# EAGLE library part HY-1.8SPI (library HY1.8SPI)
HY1.8 SPI 1.8" LCD with SD slot
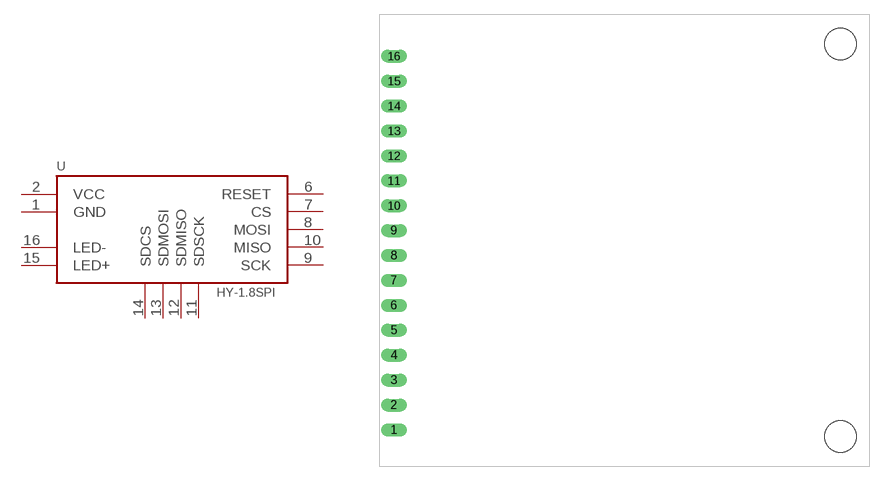
[diagram p0: symbol with the pads of HY-1.8SPI; footprint HY-1.8SPI]

Designator prefix -

## HY-1.8SPI  [HY-1.8SPI]
1  GND
2  VCC
6  RESET
7  CS
8  MOSI
9  SCK
10  MISO
11  SDSCK
12  SDMISO
13  SDMOSI
14  SDCS
15  LED+
16  LED-

## Footprint HY-1.8SPI (pad centres in mm)
drill 0.8 long: 1 -23.36,-20.32; 2 -23.36,-17.78; 3 -23.36,-15.24; 4 -23.36,-12.7; 5 -23.36,-10.16; 6 -23.36,-7.62; 7 -23.36,-5.08; 8 -23.36,-2.54; 9 -23.36,0; 10 -23.36,2.54; 11 -23.36,5.08; 12 -23.36,7.62; 13 -23.36,10.16; 14 -23.36,12.7; 15 -23.36,15.24; 16 -23.36,17.78
hole 3.2 at 22.14,19
hole 3.2 at 22.14,-21